# Altium integrated library Linear Technology PMIC-Switching Reg LTC1174-LTC3901.IntLib: 2647 symbols (part 47 of 310)
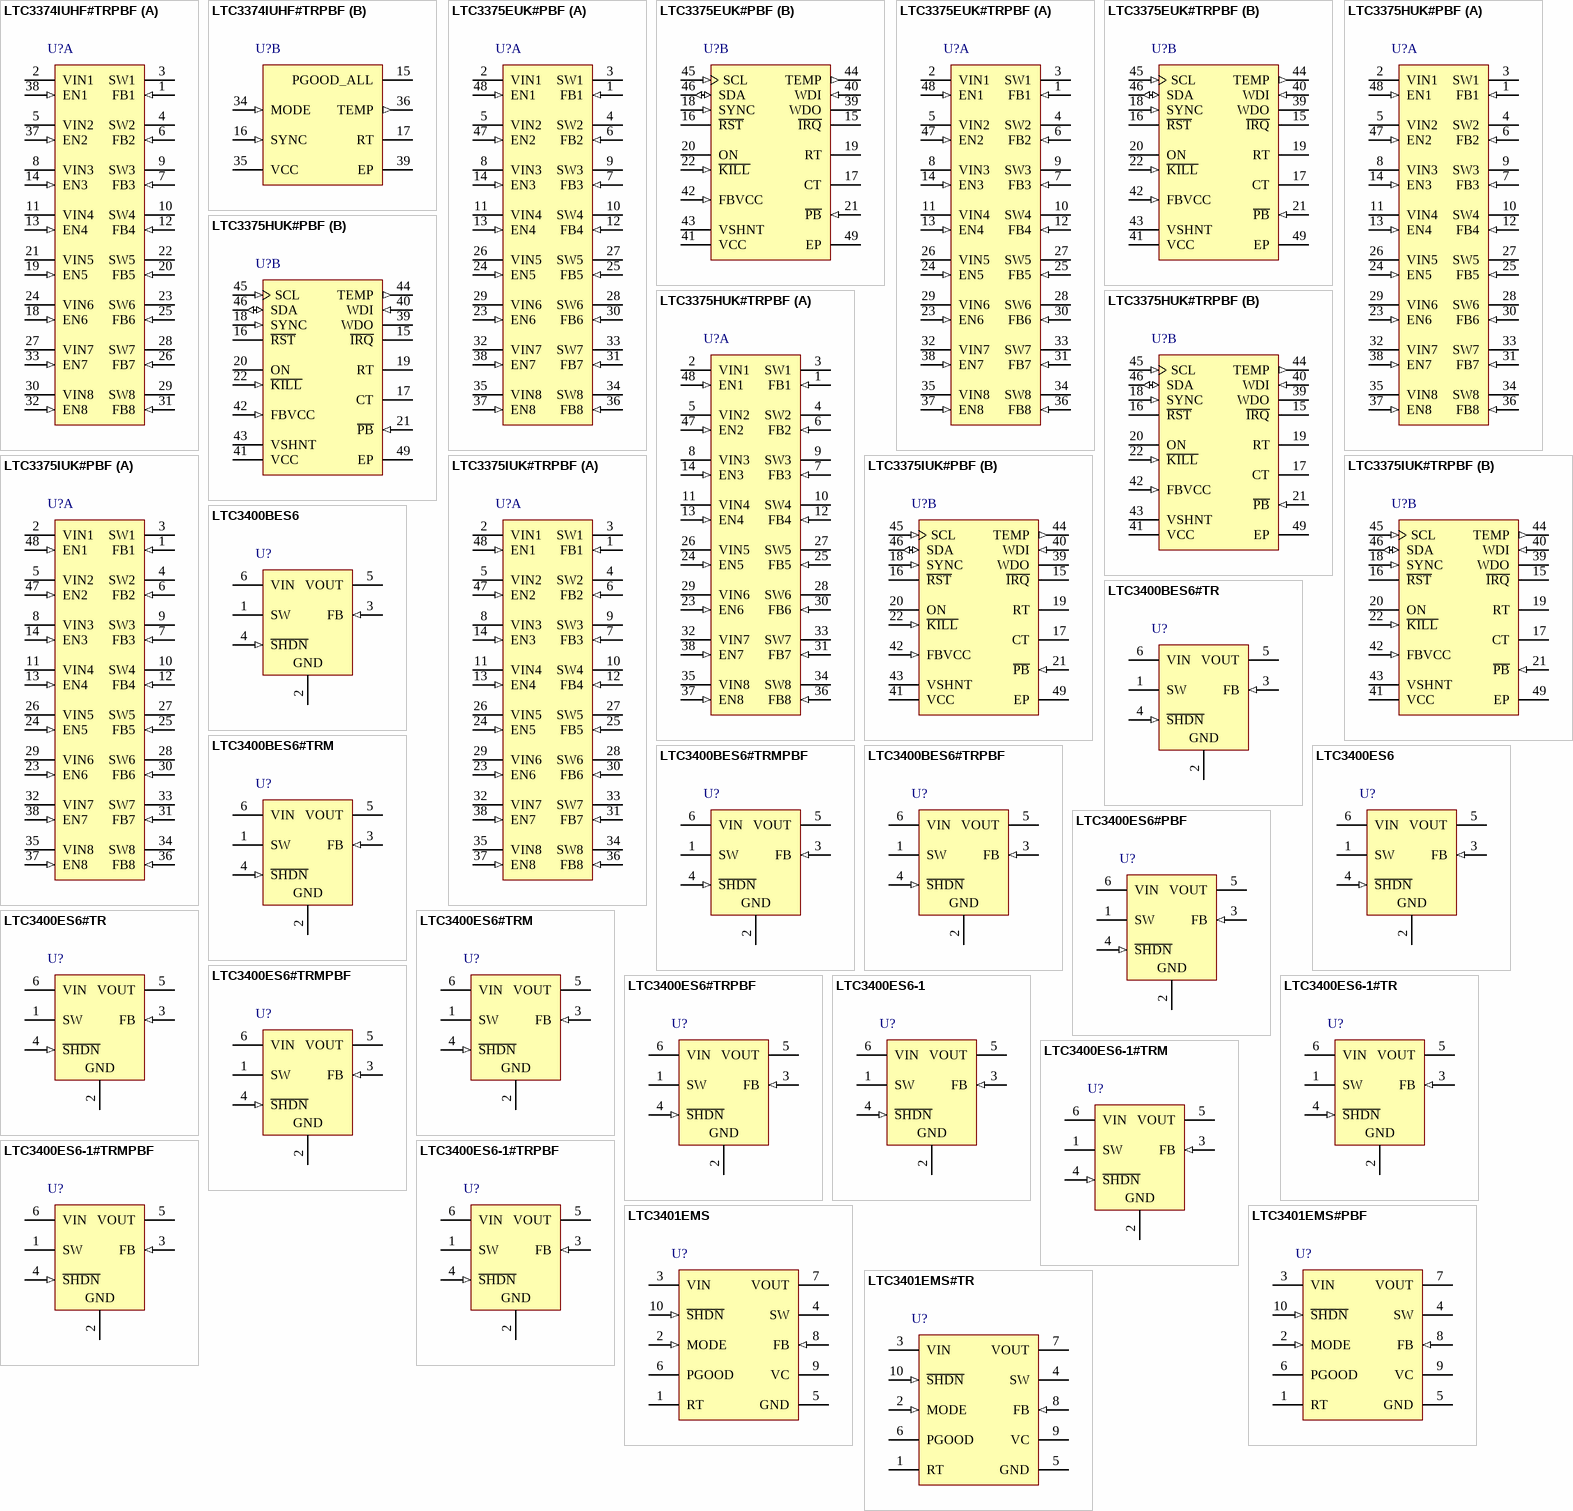
[diagram p144: symbols LTC3374IUHF#TRPBF to LTC3401EMS#TR]

## LTC3375HUK#TRPBF
designator U?
8-Channel Programmable, Parallelable 1 A Buck Regulator, 48-pin QFN (UK-48), -40 to 150 degC, Pb-Free, Tape and Reel; Manufacturer: Linear Technology; PartNumber: LTC3375HUK#TRPBF; Number of Outputs: 8; PackageReference: UK-48; PackageDescription: 48-Pin Plastic QFN, Body 7 x 7 mm, Pitch 0.5 mm; Supplier 1: Digi-Key; Supplier Part Number 1: LTC3375HUK#TRPBF-ND; RoHS: TRUE; Code_JEDEC: MO-220
footprint LT-UK-48_N (QFN, 48-Leads, Body 7.1x7.1mm, Pitch 0.5mm, Thermal Pad 5.15x5.15mm, IPC Medium Density)
footprint LT-UK-48_L (QFN, 48-Leads, Body 7.1x7.1mm, Pitch 0.5mm, Thermal Pad 5.15x5.15mm, IPC High Density)
footprint LT-UK-48_M (QFN, 48-Leads, Body 7.1x7.1mm, Pitch 0.5mm, Thermal Pad 5.15x5.15mm, IPC Low Density)
part A pins: 1 FB1 (in) "Buck Regulator 1 Feedback Pin. Receives feedback by a resistor divider connected across the output.", 2 VIN1 (power) "Buck Regulator 1 Input Supply. Bypass to GND with a 10uF or larger ceramic capacitor.", 3 SW1 (power) "Buck Regulator 1 Switch Node. External inductor connects to this pin.", 4 SW2 (power) "Buck Regulator 2 Switch Node. External inductor connects to this pin.", 5 VIN2 (power) "Buck Regulator 2 Input Supply. Bypass to GND with a 10uF or larger ceramic capacitor. May be driven by an independent supply or must be shorted to VIN1 when buck regulator 2 is combined with buck regulator 1 for higher (See Datasheet)", 6 FB2 (in) "Buck Regulator 2 Feedback Pin. Receives feedback by a resistor divider connected across the output. Connecting FB2 to VIN2 combines buck regulator 2 with buck regulator 1 for higher current. Up to 4 converters may be (See Datasheet)", 7 FB3 (in) "Buck Regulator 3 Feedback Pin. Receives feedback by a resistor divider connected across the output. Connecting FB3 to VIN3 combines buck regulator 3 with buck regulator 2 for higher current. Up to 4 converters may be (See Datasheet)", 8 VIN3 (power) "Buck Regulator 3 Input Supply. Bypass to GND with a 10uF or larger ceramic capacitor. May be driven by an independent supply or must be shorted to VIN2 when buck regulator 3 is combined with buck regulator 2 for higher (See Datasheet)", 9 SW3 (power) "Buck Regulator 3 Switch Node. External inductor connects to this pin.", 10 SW4 (power) "Buck Regulator 4 Switch Node. External inductor connects to this pin.", 11 VIN4 (power) "Buck Regulator 4 Input Supply. Bypass to GND with a 10uF or larger ceramic capacitor. May be driven by an independent supply or must be shorted to VIN3 when buck regulator 4 is combined with buck regulator 3 for higher (See Datasheet)", 12 FB4 (in) "Buck Regulator 4 Feedback Pin. Receives feedback by a resistor divider connected across the output. Connecting FB4 to VIN4 combines buck regulator 4 with buck regulator 3 for higher current. Up to 4 converters may be (See Datasheet)", 13 EN4 (in) "Buck Regulator 4 Enable Input. Active high.", 14 EN3 (in) "Buck Regulator 3 Enable Input. Active high.", 23 EN6 (in) "Buck Regulator 6 Enable Input. Active high.", 24 EN5 (in) "Buck Regulator 5 Enable Input. Active high.", 25 FB5 (in) "Buck Regulator 5 Feedback Pin. Receives feedback by a resistor divider connected across the output. Connecting FB5 to VIN5 combines buck regulator 5 with buck regulator 4 for higher current. Up to 4 converters may be (See Datasheet)", 26 VIN5 (power) "Buck Regulator 5 Input Supply. Bypass to GND with a 10uF or larger ceramic capacitor. May be driven by an independent supply or must be shorted to VIN4 when buck regulator 5 is combined with buck regulator 4 for higher (See Datasheet)", 27 SW5 (power) "Buck Regulator 5 Switch Node. External inductor connects to this pin.", 28 SW6 (power) "Buck Regulator 6 Switch Node. External inductor connects to this pin.", 29 VIN6 (power) "Buck Regulator 6 Input Supply. Bypass to GND with a 10uF or larger ceramic capacitor. May be driven by an independent supply or must be shorted to VIN5 when buck regulator 6 is combined with buck regulator 5 for higher (See Datasheet)", 30 FB6 (in) "Buck Regulator 6 Feedback Pin. Receives feedback by a resistor divider connected across the output. Connecting FB6 to VIN6 combines buck regulator 6 with buck regulator 5 for higher current. Up to 4 converters may be (See Datasheet)", 31 FB7 (in) "Buck Regulator 7 Feedback Pin. Receives feedback by a resistor divider connected across the output. Connecting FB7 to VIN7 combines buck regulator 7 with buck regulator 6 for higher current. Up to 4 converters may be (See Datasheet)", 32 VIN7 (power) "Buck Regulator 7 Input Supply. Bypass to GND with a 10uF or larger ceramic capacitor. May be driven by an independent supply or must be shorted to VIN6 when buck regulator 7 is combined with buck regulator 6 for higher (See Datasheet)", 33 SW7 (power) "Buck Regulator 7 Switch Node. External inductor connects to this pin.", 34 SW8 (power) "Buck Regulator 8 Switch Node. External inductor connects to this pin.", 35 VIN8 (power) "Buck Regulator 8 Input Supply. Bypass to GND with a 10uF or larger ceramic capacitor. May be driven by an independent supply or must be shorted to VIN7 when buck regulator 8 is combined with buck regulator 7 for higher (See Datasheet)", 36 FB8 (in) "Buck Regulator 8 Feedback Pin. Receives feedback by a resistor divider connected across the output. Connecting FB8 to VIN8 combines buck regulator 8 with buck regulator 7 for higher current. Up to 4 converters may be (See Datasheet)", 37 EN8 (in) "Buck Regulator 8 Enable Input. Active high.", 38 EN7 (in) "Buck Regulator 7 Enable Input. Active high.", 47 EN2 (in) "Buck Regulator 2 Enable Input. Active high.", 48 EN1 (in) "Buck Regulator 1 Enable Input. Active high."
part B pins: 15 ~{IRQ} (oc) "Interrupt Pin (Active Low). Open-drain output. When an undervoltage, die temperature, or unmasked error condition is detected, this pin is driven LOW.", 16 ~{RST} (oc) "Reset Pin (Active Low). Open-drain output. When the regulated output voltage of any unmasked enabled switching regulator is more than 7.5% below its programmed level, this pin is driven LOW. Assertion delay is scaled by the (See Datasheet)", 17 CT "Timing Capacitor Pin. A capacitor connected to GND sets a time constant which is scaled for use by the ON, K\I\L\L\, P\B\, R\S\T\ and I\R\Q\ pins.", 18 SYNC (in) "Oscillator Synchronization Pin. Driving SYNC with an external clock signal will synchronize all switchers to the applied frequency. The slope compensation is automatically adapted to the external clock frequency. The absence (See Datasheet)", 19 RT "Oscillator Frequency Pin. This pin provides two modes of setting the switching frequency. Connecting a resistor from RT to ground will set the switching frequency based on the resistor value. If RT is tied to VCC the default (See Datasheet)", 20 ON (oc) "Open-Drain Output. When the P\B\ pin is pressed and released, the signal is debounced and the ON signal is held HIGH for a minimum time period that is scaled by the CT capacitor. ON is forced low if: a) K\I\L\L\ is not (See Datasheet)", 21 ~{PB} (in) "Pushbutton Input. Active low. P\B\ is internally pulled to VCC through a 420k (typical) resistor.", 22 ~{KILL} (in) "Kill Input Pin. Forcing K\I\L\L\ low releases the ON output which in turn is forced low. While K\I\L\L\ is low, the buck converters will be forced to power down and will remain powered down for 1 second (scaled by the CT (See Datasheet)", 39 WDO (oc) "Watchdog Timer Output. Open-drain output. WDO is pulled low for 200ms during a watchdog timer failure.", 40 WDI (in) "Watchdog Timer Input. The WDI pin must be toggled either low to high or high to low every 1.5 seconds. Failure to toggle WDI results in the WDO pin being pulled low for 200ms.", 41 VCC (power) "Always-On LDO Output Voltage/Internal Bias Supply. When used as a regulator, VCC should be connected to the emitter/source of the external LDO NPN/ NFET transistor. VCC serves as a low voltage rail that may be used to (See Datasheet)", 42 FBVCC (in) "Always-On LDO Feedback Pin. Receives feedback by a resistor divider connected across VCC.", 43 VSHNT (power) "Shunt Regulator Base Control Voltage. VSHNT should be connected to the base/gate of an external high voltage NPN/NFET transistor and to its collector/drain through a resistor.", 44 TEMP (out) "Temperature Indication Pin. TEMP outputs a voltage of 150mV (typical) at room temperature. The TEMP voltage will change by 6.75mV/degreesC (typical) giving an external indication of the LTC3375 internal die temperature.", 45 SCL (in) "Serial Clock Line for I2C Port.", 46 SDA (io) "Serial Data Line for I2C Port. Open-drain output during read back.", 49 EP (power) "Ground. The exposed pad must be connected to a continuous ground plane on the printed circuit board directly under the LTC3375 for electrical contact and rated thermal performance."

## LTC3375IUK#PBF
designator U?
8-Channel Programmable, Parallelable 1 A Buck Regulator, 48-pin QFN (UK-48), -40 to 125 degC, Pb-Free; Manufacturer: Linear Technology; PartNumber: LTC3375IUK#PBF; Number of Outputs: 8; PackageReference: UK-48; PackageDescription: 48-Pin Plastic QFN, Body 7 x 7 mm, Pitch 0.5 mm; Supplier 1: Digi-Key; Supplier Part Number 1: LTC3375IUK#PBF-ND; RoHS: TRUE; Code_JEDEC: MO-220
footprint LT-UK-48_N (QFN, 48-Leads, Body 7.1x7.1mm, Pitch 0.5mm, Thermal Pad 5.15x5.15mm, IPC Medium Density)
footprint LT-UK-48_L (QFN, 48-Leads, Body 7.1x7.1mm, Pitch 0.5mm, Thermal Pad 5.15x5.15mm, IPC High Density)
footprint LT-UK-48_M (QFN, 48-Leads, Body 7.1x7.1mm, Pitch 0.5mm, Thermal Pad 5.15x5.15mm, IPC Low Density)
part A pins: 1 FB1 (in) "Buck Regulator 1 Feedback Pin. Receives feedback by a resistor divider connected across the output.", 2 VIN1 (power) "Buck Regulator 1 Input Supply. Bypass to GND with a 10uF or larger ceramic capacitor.", 3 SW1 (power) "Buck Regulator 1 Switch Node. External inductor connects to this pin.", 4 SW2 (power) "Buck Regulator 2 Switch Node. External inductor connects to this pin.", 5 VIN2 (power) "Buck Regulator 2 Input Supply. Bypass to GND with a 10uF or larger ceramic capacitor. May be driven by an independent supply or must be shorted to VIN1 when buck regulator 2 is combined with buck regulator 1 for higher (See Datasheet)", 6 FB2 (in) "Buck Regulator 2 Feedback Pin. Receives feedback by a resistor divider connected across the output. Connecting FB2 to VIN2 combines buck regulator 2 with buck regulator 1 for higher current. Up to 4 converters may be (See Datasheet)", 7 FB3 (in) "Buck Regulator 3 Feedback Pin. Receives feedback by a resistor divider connected across the output. Connecting FB3 to VIN3 combines buck regulator 3 with buck regulator 2 for higher current. Up to 4 converters may be (See Datasheet)", 8 VIN3 (power) "Buck Regulator 3 Input Supply. Bypass to GND with a 10uF or larger ceramic capacitor. May be driven by an independent supply or must be shorted to VIN2 when buck regulator 3 is combined with buck regulator 2 for higher (See Datasheet)", 9 SW3 (power) "Buck Regulator 3 Switch Node. External inductor connects to this pin.", 10 SW4 (power) "Buck Regulator 4 Switch Node. External inductor connects to this pin.", 11 VIN4 (power) "Buck Regulator 4 Input Supply. Bypass to GND with a 10uF or larger ceramic capacitor. May be driven by an independent supply or must be shorted to VIN3 when buck regulator 4 is combined with buck regulator 3 for higher (See Datasheet)", 12 FB4 (in) "Buck Regulator 4 Feedback Pin. Receives feedback by a resistor divider connected across the output. Connecting FB4 to VIN4 combines buck regulator 4 with buck regulator 3 for higher current. Up to 4 converters may be (See Datasheet)", 13 EN4 (in) "Buck Regulator 4 Enable Input. Active high.", 14 EN3 (in) "Buck Regulator 3 Enable Input. Active high.", 23 EN6 (in) "Buck Regulator 6 Enable Input. Active high.", 24 EN5 (in) "Buck Regulator 5 Enable Input. Active high.", 25 FB5 (in) "Buck Regulator 5 Feedback Pin. Receives feedback by a resistor divider connected across the output. Connecting FB5 to VIN5 combines buck regulator 5 with buck regulator 4 for higher current. Up to 4 converters may be (See Datasheet)", 26 VIN5 (power) "Buck Regulator 5 Input Supply. Bypass to GND with a 10uF or larger ceramic capacitor. May be driven by an independent supply or must be shorted to VIN4 when buck regulator 5 is combined with buck regulator 4 for higher (See Datasheet)", 27 SW5 (power) "Buck Regulator 5 Switch Node. External inductor connects to this pin.", 28 SW6 (power) "Buck Regulator 6 Switch Node. External inductor connects to this pin.", 29 VIN6 (power) "Buck Regulator 6 Input Supply. Bypass to GND with a 10uF or larger ceramic capacitor. May be driven by an independent supply or must be shorted to VIN5 when buck regulator 6 is combined with buck regulator 5 for higher (See Datasheet)", 30 FB6 (in) "Buck Regulator 6 Feedback Pin. Receives feedback by a resistor divider connected across the output. Connecting FB6 to VIN6 combines buck regulator 6 with buck regulator 5 for higher current. Up to 4 converters may be (See Datasheet)", 31 FB7 (in) "Buck Regulator 7 Feedback Pin. Receives feedback by a resistor divider connected across the output. Connecting FB7 to VIN7 combines buck regulator 7 with buck regulator 6 for higher current. Up to 4 converters may be (See Datasheet)", 32 VIN7 (power) "Buck Regulator 7 Input Supply. Bypass to GND with a 10uF or larger ceramic capacitor. May be driven by an independent supply or must be shorted to VIN6 when buck regulator 7 is combined with buck regulator 6 for higher (See Datasheet)", 33 SW7 (power) "Buck Regulator 7 Switch Node. External inductor connects to this pin.", 34 SW8 (power) "Buck Regulator 8 Switch Node. External inductor connects to this pin.", 35 VIN8 (power) "Buck Regulator 8 Input Supply. Bypass to GND with a 10uF or larger ceramic capacitor. May be driven by an independent supply or must be shorted to VIN7 when buck regulator 8 is combined with buck regulator 7 for higher (See Datasheet)", 36 FB8 (in) "Buck Regulator 8 Feedback Pin. Receives feedback by a resistor divider connected across the output. Connecting FB8 to VIN8 combines buck regulator 8 with buck regulator 7 for higher current. Up to 4 converters may be (See Datasheet)", 37 EN8 (in) "Buck Regulator 8 Enable Input. Active high.", 38 EN7 (in) "Buck Regulator 7 Enable Input. Active high.", 47 EN2 (in) "Buck Regulator 2 Enable Input. Active high.", 48 EN1 (in) "Buck Regulator 1 Enable Input. Active high."
part B pins: 15 ~{IRQ} (oc) "Interrupt Pin (Active Low). Open-drain output. When an undervoltage, die temperature, or unmasked error condition is detected, this pin is driven LOW.", 16 ~{RST} (oc) "Reset Pin (Active Low). Open-drain output. When the regulated output voltage of any unmasked enabled switching regulator is more than 7.5% below its programmed level, this pin is driven LOW. Assertion delay is scaled by the (See Datasheet)", 17 CT "Timing Capacitor Pin. A capacitor connected to GND sets a time constant which is scaled for use by the ON, K\I\L\L\, P\B\, R\S\T\ and I\R\Q\ pins.", 18 SYNC (in) "Oscillator Synchronization Pin. Driving SYNC with an external clock signal will synchronize all switchers to the applied frequency. The slope compensation is automatically adapted to the external clock frequency. The absence (See Datasheet)", 19 RT "Oscillator Frequency Pin. This pin provides two modes of setting the switching frequency. Connecting a resistor from RT to ground will set the switching frequency based on the resistor value. If RT is tied to VCC the default (See Datasheet)", 20 ON (oc) "Open-Drain Output. When the P\B\ pin is pressed and released, the signal is debounced and the ON signal is held HIGH for a minimum time period that is scaled by the CT capacitor. ON is forced low if: a) K\I\L\L\ is not (See Datasheet)", 21 ~{PB} (in) "Pushbutton Input. Active low. P\B\ is internally pulled to VCC through a 420k (typical) resistor.", 22 ~{KILL} (in) "Kill Input Pin. Forcing K\I\L\L\ low releases the ON output which in turn is forced low. While K\I\L\L\ is low, the buck converters will be forced to power down and will remain powered down for 1 second (scaled by the CT (See Datasheet)", 39 WDO (oc) "Watchdog Timer Output. Open-drain output. WDO is pulled low for 200ms during a watchdog timer failure.", 40 WDI (in) "Watchdog Timer Input. The WDI pin must be toggled either low to high or high to low every 1.5 seconds. Failure to toggle WDI results in the WDO pin being pulled low for 200ms.", 41 VCC (power) "Always-On LDO Output Voltage/Internal Bias Supply. When used as a regulator, VCC should be connected to the emitter/source of the external LDO NPN/ NFET transistor. VCC serves as a low voltage rail that may be used to (See Datasheet)", 42 FBVCC (in) "Always-On LDO Feedback Pin. Receives feedback by a resistor divider connected across VCC.", 43 VSHNT (power) "Shunt Regulator Base Control Voltage. VSHNT should be connected to the base/gate of an external high voltage NPN/NFET transistor and to its collector/drain through a resistor.", 44 TEMP (out) "Temperature Indication Pin. TEMP outputs a voltage of 150mV (typical) at room temperature. The TEMP voltage will change by 6.75mV/degreesC (typical) giving an external indication of the LTC3375 internal die temperature.", 45 SCL (in) "Serial Clock Line for I2C Port.", 46 SDA (io) "Serial Data Line for I2C Port. Open-drain output during read back.", 49 EP (power) "Ground. The exposed pad must be connected to a continuous ground plane on the printed circuit board directly under the LTC3375 for electrical contact and rated thermal performance."

## LTC3375IUK#TRPBF
designator U?
8-Channel Programmable, Parallelable 1 A Buck Regulator, 48-pin QFN (UK-48), -40 to 125 degC, Pb-Free, Tape and Reel; Manufacturer: Linear Technology; PartNumber: LTC3375IUK#TRPBF; Number of Outputs: 8; PackageReference: UK-48; PackageDescription: 48-Pin Plastic QFN, Body 7 x 7 mm, Pitch 0.5 mm; Supplier 1: Digi-Key; Supplier Part Number 1: LTC3375IUK#TRPBF-ND; RoHS: TRUE; Code_JEDEC: MO-220
footprint LT-UK-48_N (QFN, 48-Leads, Body 7.1x7.1mm, Pitch 0.5mm, Thermal Pad 5.15x5.15mm, IPC Medium Density)
footprint LT-UK-48_L (QFN, 48-Leads, Body 7.1x7.1mm, Pitch 0.5mm, Thermal Pad 5.15x5.15mm, IPC High Density)
footprint LT-UK-48_M (QFN, 48-Leads, Body 7.1x7.1mm, Pitch 0.5mm, Thermal Pad 5.15x5.15mm, IPC Low Density)
part A pins: 1 FB1 (in) "Buck Regulator 1 Feedback Pin. Receives feedback by a resistor divider connected across the output.", 2 VIN1 (power) "Buck Regulator 1 Input Supply. Bypass to GND with a 10uF or larger ceramic capacitor.", 3 SW1 (power) "Buck Regulator 1 Switch Node. External inductor connects to this pin.", 4 SW2 (power) "Buck Regulator 2 Switch Node. External inductor connects to this pin.", 5 VIN2 (power) "Buck Regulator 2 Input Supply. Bypass to GND with a 10uF or larger ceramic capacitor. May be driven by an independent supply or must be shorted to VIN1 when buck regulator 2 is combined with buck regulator 1 for higher (See Datasheet)", 6 FB2 (in) "Buck Regulator 2 Feedback Pin. Receives feedback by a resistor divider connected across the output. Connecting FB2 to VIN2 combines buck regulator 2 with buck regulator 1 for higher current. Up to 4 converters may be (See Datasheet)", 7 FB3 (in) "Buck Regulator 3 Feedback Pin. Receives feedback by a resistor divider connected across the output. Connecting FB3 to VIN3 combines buck regulator 3 with buck regulator 2 for higher current. Up to 4 converters may be (See Datasheet)", 8 VIN3 (power) "Buck Regulator 3 Input Supply. Bypass to GND with a 10uF or larger ceramic capacitor. May be driven by an independent supply or must be shorted to VIN2 when buck regulator 3 is combined with buck regulator 2 for higher (See Datasheet)", 9 SW3 (power) "Buck Regulator 3 Switch Node. External inductor connects to this pin.", 10 SW4 (power) "Buck Regulator 4 Switch Node. External inductor connects to this pin.", 11 VIN4 (power) "Buck Regulator 4 Input Supply. Bypass to GND with a 10uF or larger ceramic capacitor. May be driven by an independent supply or must be shorted to VIN3 when buck regulator 4 is combined with buck regulator 3 for higher (See Datasheet)", 12 FB4 (in) "Buck Regulator 4 Feedback Pin. Receives feedback by a resistor divider connected across the output. Connecting FB4 to VIN4 combines buck regulator 4 with buck regulator 3 for higher current. Up to 4 converters may be (See Datasheet)", 13 EN4 (in) "Buck Regulator 4 Enable Input. Active high.", 14 EN3 (in) "Buck Regulator 3 Enable Input. Active high.", 23 EN6 (in) "Buck Regulator 6 Enable Input. Active high.", 24 EN5 (in) "Buck Regulator 5 Enable Input. Active high.", 25 FB5 (in) "Buck Regulator 5 Feedback Pin. Receives feedback by a resistor divider connected across the output. Connecting FB5 to VIN5 combines buck regulator 5 with buck regulator 4 for higher current. Up to 4 converters may be (See Datasheet)", 26 VIN5 (power) "Buck Regulator 5 Input Supply. Bypass to GND with a 10uF or larger ceramic capacitor. May be driven by an independent supply or must be shorted to VIN4 when buck regulator 5 is combined with buck regulator 4 for higher (See Datasheet)", 27 SW5 (power) "Buck Regulator 5 Switch Node. External inductor connects to this pin.", 28 SW6 (power) "Buck Regulator 6 Switch Node. External inductor connects to this pin.", 29 VIN6 (power) "Buck Regulator 6 Input Supply. Bypass to GND with a 10uF or larger ceramic capacitor. May be driven by an independent supply or must be shorted to VIN5 when buck regulator 6 is combined with buck regulator 5 for higher (See Datasheet)", 30 FB6 (in) "Buck Regulator 6 Feedback Pin. Receives feedback by a resistor divider connected across the output. Connecting FB6 to VIN6 combines buck regulator 6 with buck regulator 5 for higher current. Up to 4 converters may be (See Datasheet)", 31 FB7 (in) "Buck Regulator 7 Feedback Pin. Receives feedback by a resistor divider connected across the output. Connecting FB7 to VIN7 combines buck regulator 7 with buck regulator 6 for higher current. Up to 4 converters may be (See Datasheet)", 32 VIN7 (power) "Buck Regulator 7 Input Supply. Bypass to GND with a 10uF or larger ceramic capacitor. May be driven by an independent supply or must be shorted to VIN6 when buck regulator 7 is combined with buck regulator 6 for higher (See Datasheet)", 33 SW7 (power) "Buck Regulator 7 Switch Node. External inductor connects to this pin.", 34 SW8 (power) "Buck Regulator 8 Switch Node. External inductor connects to this pin.", 35 VIN8 (power) "Buck Regulator 8 Input Supply. Bypass to GND with a 10uF or larger ceramic capacitor. May be driven by an independent supply or must be shorted to VIN7 when buck regulator 8 is combined with buck regulator 7 for higher (See Datasheet)", 36 FB8 (in) "Buck Regulator 8 Feedback Pin. Receives feedback by a resistor divider connected across the output. Connecting FB8 to VIN8 combines buck regulator 8 with buck regulator 7 for higher current. Up to 4 converters may be (See Datasheet)", 37 EN8 (in) "Buck Regulator 8 Enable Input. Active high.", 38 EN7 (in) "Buck Regulator 7 Enable Input. Active high.", 47 EN2 (in) "Buck Regulator 2 Enable Input. Active high.", 48 EN1 (in) "Buck Regulator 1 Enable Input. Active high."
part B pins: 15 ~{IRQ} (oc) "Interrupt Pin (Active Low). Open-drain output. When an undervoltage, die temperature, or unmasked error condition is detected, this pin is driven LOW.", 16 ~{RST} (oc) "Reset Pin (Active Low). Open-drain output. When the regulated output voltage of any unmasked enabled switching regulator is more than 7.5% below its programmed level, this pin is driven LOW. Assertion delay is scaled by the (See Datasheet)", 17 CT "Timing Capacitor Pin. A capacitor connected to GND sets a time constant which is scaled for use by the ON, K\I\L\L\, P\B\, R\S\T\ and I\R\Q\ pins.", 18 SYNC (in) "Oscillator Synchronization Pin. Driving SYNC with an external clock signal will synchronize all switchers to the applied frequency. The slope compensation is automatically adapted to the external clock frequency. The absence (See Datasheet)", 19 RT "Oscillator Frequency Pin. This pin provides two modes of setting the switching frequency. Connecting a resistor from RT to ground will set the switching frequency based on the resistor value. If RT is tied to VCC the default (See Datasheet)", 20 ON (oc) "Open-Drain Output. When the P\B\ pin is pressed and released, the signal is debounced and the ON signal is held HIGH for a minimum time period that is scaled by the CT capacitor. ON is forced low if: a) K\I\L\L\ is not (See Datasheet)", 21 ~{PB} (in) "Pushbutton Input. Active low. P\B\ is internally pulled to VCC through a 420k (typical) resistor.", 22 ~{KILL} (in) "Kill Input Pin. Forcing K\I\L\L\ low releases the ON output which in turn is forced low. While K\I\L\L\ is low, the buck converters will be forced to power down and will remain powered down for 1 second (scaled by the CT (See Datasheet)", 39 WDO (oc) "Watchdog Timer Output. Open-drain output. WDO is pulled low for 200ms during a watchdog timer failure.", 40 WDI (in) "Watchdog Timer Input. The WDI pin must be toggled either low to high or high to low every 1.5 seconds. Failure to toggle WDI results in the WDO pin being pulled low for 200ms.", 41 VCC (power) "Always-On LDO Output Voltage/Internal Bias Supply. When used as a regulator, VCC should be connected to the emitter/source of the external LDO NPN/ NFET transistor. VCC serves as a low voltage rail that may be used to (See Datasheet)", 42 FBVCC (in) "Always-On LDO Feedback Pin. Receives feedback by a resistor divider connected across VCC.", 43 VSHNT (power) "Shunt Regulator Base Control Voltage. VSHNT should be connected to the base/gate of an external high voltage NPN/NFET transistor and to its collector/drain through a resistor.", 44 TEMP (out) "Temperature Indication Pin. TEMP outputs a voltage of 150mV (typical) at room temperature. The TEMP voltage will change by 6.75mV/degreesC (typical) giving an external indication of the LTC3375 internal die temperature.", 45 SCL (in) "Serial Clock Line for I2C Port.", 46 SDA (io) "Serial Data Line for I2C Port. Open-drain output during read back.", 49 EP (power) "Ground. The exposed pad must be connected to a continuous ground plane on the printed circuit board directly under the LTC3375 for electrical contact and rated thermal performance."

## LTC3400BES6
designator U?
600 mA, 1.2 MHz Micropower Synchronous Boost Converter, 6-pin SOT23 (S6-6), -30 to 85 degC; Manufacturer: Linear Technology; PartNumber: LTC3400BES6; Number of Outputs: 1; PackageReference: S6-6; PackageDescription: 6-Pin Plastic TSOT-23, Body 2.9 x 1.63 mm, Pitch 0.95 mm; RoHS: FALSE; Code_JEDEC: MO-193
footprint LT-S6-6-TSOT-23_N (SOT23, 6-Leads, Body 2.9x1.75mm, Pitch 0.95mm, IPC Medium Density)
footprint LT-S6-6-TSOT-23_L (SOT23, 6-Leads, Body 2.9x1.75mm, Pitch 0.95mm, IPC High Density)
footprint LT-S6-6-TSOT-23_M (SOT23, 6-Leads, Body 2.9x1.75mm, Pitch 0.95mm, IPC Low Density)
pins: 1 SW, 2 GND (power), 3 FB (in), 4 ~{SHDN} (in), 5 VOUT (power), 6 VIN (power)

## LTC3400BES6#TR
designator U?
600 mA, 1.2 MHz Micropower Synchronous Boost Converter, 6-pin SOT23 (S6-6), -30 to 85 degC, Tape and Reel; Manufacturer: Linear Technology; PartNumber: LTC3400BES6#TR; Number of Outputs: 1; PackageReference: S6-6; PackageDescription: 6-Pin Plastic TSOT-23, Body 2.9 x 1.63 mm, Pitch 0.95 mm; Supplier 1: Digi-Key; Supplier Part Number 1: LTC3400BES6TR-ND; RoHS: FALSE; Code_JEDEC: MO-193
footprint LT-S6-6-TSOT-23_N (SOT23, 6-Leads, Body 2.9x1.75mm, Pitch 0.95mm, IPC Medium Density)
footprint LT-S6-6-TSOT-23_L (SOT23, 6-Leads, Body 2.9x1.75mm, Pitch 0.95mm, IPC High Density)
footprint LT-S6-6-TSOT-23_M (SOT23, 6-Leads, Body 2.9x1.75mm, Pitch 0.95mm, IPC Low Density)
pins: 1 SW, 2 GND (power), 3 FB (in), 4 ~{SHDN} (in), 5 VOUT (power), 6 VIN (power)

## LTC3400BES6#TRM
designator U?
600 mA, 1.2 MHz Micropower Synchronous Boost Converter, 6-pin SOT23 (S6-6), -30 to 85 degC, Mini Tape and Reel; Manufacturer: Linear Technology; PartNumber: LTC3400BES6#TRM; Number of Outputs: 1; PackageReference: S6-6; PackageDescription: 6-Pin Plastic TSOT-23, Body 2.9 x 1.63 mm, Pitch 0.95 mm; Supplier 1: Digi-Key; Supplier Part Number 1: LTC3400BES6#TRMTR-ND; RoHS: FALSE; Code_JEDEC: MO-193
footprint LT-S6-6-TSOT-23_N (SOT23, 6-Leads, Body 2.9x1.75mm, Pitch 0.95mm, IPC Medium Density)
footprint LT-S6-6-TSOT-23_L (SOT23, 6-Leads, Body 2.9x1.75mm, Pitch 0.95mm, IPC High Density)
footprint LT-S6-6-TSOT-23_M (SOT23, 6-Leads, Body 2.9x1.75mm, Pitch 0.95mm, IPC Low Density)
pins: 1 SW, 2 GND (power), 3 FB (in), 4 ~{SHDN} (in), 5 VOUT (power), 6 VIN (power)

## LTC3400BES6#TRMPBF
designator U?
600 mA, 1.2 MHz Micropower Synchronous Boost Converter, 6-pin SOT23 (S6-6), -30 to 85 degC, Pb-Free, Mini Tape and Reel; Manufacturer: Linear Technology; PartNumber: LTC3400BES6#TRMPBF; Number of Outputs: 1; PackageReference: S6-6; PackageDescription: 6-Pin Plastic TSOT-23, Body 2.9 x 1.63 mm, Pitch 0.95 mm; Supplier 1: Digi-Key; Supplier Part Number 1: LTC3400BES6#TRMPBFTR-ND; RoHS: TRUE; Code_JEDEC: MO-193
footprint LT-S6-6-TSOT-23_N (SOT23, 6-Leads, Body 2.9x1.75mm, Pitch 0.95mm, IPC Medium Density)
footprint LT-S6-6-TSOT-23_L (SOT23, 6-Leads, Body 2.9x1.75mm, Pitch 0.95mm, IPC High Density)
footprint LT-S6-6-TSOT-23_M (SOT23, 6-Leads, Body 2.9x1.75mm, Pitch 0.95mm, IPC Low Density)
pins: 1 SW, 2 GND (power), 3 FB (in), 4 ~{SHDN} (in), 5 VOUT (power), 6 VIN (power)

## LTC3400BES6#TRPBF
designator U?
600 mA, 1.2 MHz Micropower Synchronous Boost Converter, 6-pin SOT23 (S6-6), -30 to 85 degC, Pb-Free, Tape and Reel; Manufacturer: Linear Technology; PartNumber: LTC3400BES6#TRPBF; Number of Outputs: 1; PackageReference: S6-6; PackageDescription: 6-Pin Plastic TSOT-23, Body 2.9 x 1.63 mm, Pitch 0.95 mm; Supplier 1: Digi-Key; Supplier Part Number 1: LTC3400BES6#TRPBF-ND; RoHS: TRUE; Code_JEDEC: MO-193
footprint LT-S6-6-TSOT-23_N (SOT23, 6-Leads, Body 2.9x1.75mm, Pitch 0.95mm, IPC Medium Density)
footprint LT-S6-6-TSOT-23_L (SOT23, 6-Leads, Body 2.9x1.75mm, Pitch 0.95mm, IPC High Density)
footprint LT-S6-6-TSOT-23_M (SOT23, 6-Leads, Body 2.9x1.75mm, Pitch 0.95mm, IPC Low Density)
pins: 1 SW, 2 GND (power), 3 FB (in), 4 ~{SHDN} (in), 5 VOUT (power), 6 VIN (power)

## LTC3400ES6
designator U?
600 mA, 1.2 MHz Micropower Synchronous Boost Converter, 6-pin SOT23 (S6-6), -30 to 85 degC; Manufacturer: Linear Technology; PartNumber: LTC3400ES6; Number of Outputs: 1; PackageReference: S6-6; PackageDescription: 6-Pin Plastic TSOT-23, Body 2.9 x 1.63 mm, Pitch 0.95 mm; RoHS: FALSE; Code_JEDEC: MO-193
footprint LT-S6-6-TSOT-23_N (SOT23, 6-Leads, Body 2.9x1.75mm, Pitch 0.95mm, IPC Medium Density)
footprint LT-S6-6-TSOT-23_L (SOT23, 6-Leads, Body 2.9x1.75mm, Pitch 0.95mm, IPC High Density)
footprint LT-S6-6-TSOT-23_M (SOT23, 6-Leads, Body 2.9x1.75mm, Pitch 0.95mm, IPC Low Density)
pins: 1 SW "Switch Pin. Connect inductor between SW and VIN. Optional Schottky diode is connected between SW and VOUT. Keep these PCB trace lengths as short and wide as possible to reduce EMI and voltage overshoot. If the inductor (See Datasheet)", 2 GND (power) "Signal and Power Ground. Provide a short direct PCB path between GND and the (-) side of the output capacitor(s).", 3 FB (in) "Feedback Input to the gm Error Amplifier. Connect resistor divider tap to this pin.", 4 ~{SHDN} (in) "Logic Controlled Shutdown Input. S\H\D\N\ = High: Normal free running operation, 1.2MHz typical operating frequency. S\H\D\N\ = Low: Shutdown, quiescent current <1mA. 100W connected between SW and VIN. Typically, S\H\D\N\ (See Datasheet)", 5 VOUT (power) "Output Voltage Sense Input and Drain of the Internal Synchronous Rectifier MOSFET. Bias is derived from VOUT. PCB trace length from VOUT to the output filter capacitor(s) should be as short and wide as possible. VOUT is held (See Datasheet)", 6 VIN (power) "Battery Input Voltage. The device gets its start-up bias from VIN. Once VOUT exceeds VIN, bias comes from VOUT. Thus, once started, operation is completely independent from VIN. Operation is only limited by the output power (See Datasheet)"

## LTC3400ES6#PBF
designator U?
600 mA, 1.2 MHz Micropower Synchronous Boost Converter, 6-pin SOT23 (S6-6), -30 to 85 degC, Pb-Free; Manufacturer: Linear Technology; PartNumber: LTC3400ES6#PBF; Number of Outputs: 1; PackageReference: S6-6; PackageDescription: 6-Pin Plastic TSOT-23, Body 2.9 x 1.63 mm, Pitch 0.95 mm; Supplier 1: Farnell; Supplier Part Number 1: 2308143; RoHS: TRUE; Code_JEDEC: MO-193
footprint LT-S6-6-TSOT-23_N (SOT23, 6-Leads, Body 2.9x1.75mm, Pitch 0.95mm, IPC Medium Density)
footprint LT-S6-6-TSOT-23_L (SOT23, 6-Leads, Body 2.9x1.75mm, Pitch 0.95mm, IPC High Density)
footprint LT-S6-6-TSOT-23_M (SOT23, 6-Leads, Body 2.9x1.75mm, Pitch 0.95mm, IPC Low Density)
pins: 1 SW "Switch Pin. Connect inductor between SW and VIN. Optional Schottky diode is connected between SW and VOUT. Keep these PCB trace lengths as short and wide as possible to reduce EMI and voltage overshoot. If the inductor (See Datasheet)", 2 GND (power) "Signal and Power Ground. Provide a short direct PCB path between GND and the (-) side of the output capacitor(s).", 3 FB (in) "Feedback Input to the gm Error Amplifier. Connect resistor divider tap to this pin.", 4 ~{SHDN} (in) "Logic Controlled Shutdown Input. S\H\D\N\ = High: Normal free running operation, 1.2MHz typical operating frequency. S\H\D\N\ = Low: Shutdown, quiescent current <1mA. 100W connected between SW and VIN. Typically, S\H\D\N\ (See Datasheet)", 5 VOUT (power) "Output Voltage Sense Input and Drain of the Internal Synchronous Rectifier MOSFET. Bias is derived from VOUT. PCB trace length from VOUT to the output filter capacitor(s) should be as short and wide as possible. VOUT is held (See Datasheet)", 6 VIN (power) "Battery Input Voltage. The device gets its start-up bias from VIN. Once VOUT exceeds VIN, bias comes from VOUT. Thus, once started, operation is completely independent from VIN. Operation is only limited by the output power (See Datasheet)"

## LTC3400ES6#TR
designator U?
600 mA, 1.2 MHz Micropower Synchronous Boost Converter, 6-pin SOT23 (S6-6), -30 to 85 degC, Tape and Reel; Manufacturer: Linear Technology; PartNumber: LTC3400ES6#TR; Number of Outputs: 1; PackageReference: S6-6; PackageDescription: 6-Pin Plastic TSOT-23, Body 2.9 x 1.63 mm, Pitch 0.95 mm; Supplier 1: Digi-Key; Supplier Part Number 1: LTC3400ES6TR-ND; RoHS: FALSE; Code_JEDEC: MO-193
footprint LT-S6-6-TSOT-23_N (SOT23, 6-Leads, Body 2.9x1.75mm, Pitch 0.95mm, IPC Medium Density)
footprint LT-S6-6-TSOT-23_L (SOT23, 6-Leads, Body 2.9x1.75mm, Pitch 0.95mm, IPC High Density)
footprint LT-S6-6-TSOT-23_M (SOT23, 6-Leads, Body 2.9x1.75mm, Pitch 0.95mm, IPC Low Density)
pins: 1 SW "Switch Pin. Connect inductor between SW and VIN. Optional Schottky diode is connected between SW and VOUT. Keep these PCB trace lengths as short and wide as possible to reduce EMI and voltage overshoot. If the inductor (See Datasheet)", 2 GND (power) "Signal and Power Ground. Provide a short direct PCB path between GND and the (-) side of the output capacitor(s).", 3 FB (in) "Feedback Input to the gm Error Amplifier. Connect resistor divider tap to this pin.", 4 ~{SHDN} (in) "Logic Controlled Shutdown Input. S\H\D\N\ = High: Normal free running operation, 1.2MHz typical operating frequency. S\H\D\N\ = Low: Shutdown, quiescent current <1mA. 100W connected between SW and VIN. Typically, S\H\D\N\ (See Datasheet)", 5 VOUT (power) "Output Voltage Sense Input and Drain of the Internal Synchronous Rectifier MOSFET. Bias is derived from VOUT. PCB trace length from VOUT to the output filter capacitor(s) should be as short and wide as possible. VOUT is held (See Datasheet)", 6 VIN (power) "Battery Input Voltage. The device gets its start-up bias from VIN. Once VOUT exceeds VIN, bias comes from VOUT. Thus, once started, operation is completely independent from VIN. Operation is only limited by the output power (See Datasheet)"

## LTC3400ES6#TRM
designator U?
600 mA, 1.2 MHz Micropower Synchronous Boost Converter, 6-pin SOT23 (S6-6), -30 to 85 degC, Mini Tape and Reel; Manufacturer: Linear Technology; PartNumber: LTC3400ES6#TRM; Number of Outputs: 1; PackageReference: S6-6; PackageDescription: 6-Pin Plastic TSOT-23, Body 2.9 x 1.63 mm, Pitch 0.95 mm; Supplier 1: Digi-Key; Supplier Part Number 1: LTC3400ES6#TRMTR-ND; RoHS: FALSE; Code_JEDEC: MO-193
footprint LT-S6-6-TSOT-23_N (SOT23, 6-Leads, Body 2.9x1.75mm, Pitch 0.95mm, IPC Medium Density)
footprint LT-S6-6-TSOT-23_L (SOT23, 6-Leads, Body 2.9x1.75mm, Pitch 0.95mm, IPC High Density)
footprint LT-S6-6-TSOT-23_M (SOT23, 6-Leads, Body 2.9x1.75mm, Pitch 0.95mm, IPC Low Density)
pins: 1 SW "Switch Pin. Connect inductor between SW and VIN. Optional Schottky diode is connected between SW and VOUT. Keep these PCB trace lengths as short and wide as possible to reduce EMI and voltage overshoot. If the inductor (See Datasheet)", 2 GND (power) "Signal and Power Ground. Provide a short direct PCB path between GND and the (-) side of the output capacitor(s).", 3 FB (in) "Feedback Input to the gm Error Amplifier. Connect resistor divider tap to this pin.", 4 ~{SHDN} (in) "Logic Controlled Shutdown Input. S\H\D\N\ = High: Normal free running operation, 1.2MHz typical operating frequency. S\H\D\N\ = Low: Shutdown, quiescent current <1mA. 100W connected between SW and VIN. Typically, S\H\D\N\ (See Datasheet)", 5 VOUT (power) "Output Voltage Sense Input and Drain of the Internal Synchronous Rectifier MOSFET. Bias is derived from VOUT. PCB trace length from VOUT to the output filter capacitor(s) should be as short and wide as possible. VOUT is held (See Datasheet)", 6 VIN (power) "Battery Input Voltage. The device gets its start-up bias from VIN. Once VOUT exceeds VIN, bias comes from VOUT. Thus, once started, operation is completely independent from VIN. Operation is only limited by the output power (See Datasheet)"

## LTC3400ES6#TRMPBF
designator U?
600 mA, 1.2 MHz Micropower Synchronous Boost Converter, 6-pin SOT23 (S6-6), -30 to 85 degC, Pb-Free, Mini Tape and Reel; Manufacturer: Linear Technology; PartNumber: LTC3400ES6#TRMPBF; Number of Outputs: 1; PackageReference: S6-6; PackageDescription: 6-Pin Plastic TSOT-23, Body 2.9 x 1.63 mm, Pitch 0.95 mm; Supplier 1: Digi-Key; Supplier Part Number 1: LTC3400ES6#TRMPBFTR-ND; RoHS: TRUE; Code_JEDEC: MO-193
footprint LT-S6-6-TSOT-23_N (SOT23, 6-Leads, Body 2.9x1.75mm, Pitch 0.95mm, IPC Medium Density)
footprint LT-S6-6-TSOT-23_L (SOT23, 6-Leads, Body 2.9x1.75mm, Pitch 0.95mm, IPC High Density)
footprint LT-S6-6-TSOT-23_M (SOT23, 6-Leads, Body 2.9x1.75mm, Pitch 0.95mm, IPC Low Density)
pins: 1 SW "Switch Pin. Connect inductor between SW and VIN. Optional Schottky diode is connected between SW and VOUT. Keep these PCB trace lengths as short and wide as possible to reduce EMI and voltage overshoot. If the inductor (See Datasheet)", 2 GND (power) "Signal and Power Ground. Provide a short direct PCB path between GND and the (-) side of the output capacitor(s).", 3 FB (in) "Feedback Input to the gm Error Amplifier. Connect resistor divider tap to this pin.", 4 ~{SHDN} (in) "Logic Controlled Shutdown Input. S\H\D\N\ = High: Normal free running operation, 1.2MHz typical operating frequency. S\H\D\N\ = Low: Shutdown, quiescent current <1mA. 100W connected between SW and VIN. Typically, S\H\D\N\ (See Datasheet)", 5 VOUT (power) "Output Voltage Sense Input and Drain of the Internal Synchronous Rectifier MOSFET. Bias is derived from VOUT. PCB trace length from VOUT to the output filter capacitor(s) should be as short and wide as possible. VOUT is held (See Datasheet)", 6 VIN (power) "Battery Input Voltage. The device gets its start-up bias from VIN. Once VOUT exceeds VIN, bias comes from VOUT. Thus, once started, operation is completely independent from VIN. Operation is only limited by the output power (See Datasheet)"

## LTC3400ES6#TRPBF
designator U?
600 mA, 1.2 MHz Micropower Synchronous Boost Converter, 6-pin SOT23 (S6-6), -30 to 85 degC, Pb-Free, Tape and Reel; Manufacturer: Linear Technology; PartNumber: LTC3400ES6#TRPBF; Number of Outputs: 1; PackageReference: S6-6; PackageDescription: 6-Pin Plastic TSOT-23, Body 2.9 x 1.63 mm, Pitch 0.95 mm; Supplier 1: Digi-Key; Supplier Part Number 1: LTC3400ES6#TRPBF-ND; RoHS: TRUE; Code_JEDEC: MO-193
footprint LT-S6-6-TSOT-23_N (SOT23, 6-Leads, Body 2.9x1.75mm, Pitch 0.95mm, IPC Medium Density)
footprint LT-S6-6-TSOT-23_L (SOT23, 6-Leads, Body 2.9x1.75mm, Pitch 0.95mm, IPC High Density)
footprint LT-S6-6-TSOT-23_M (SOT23, 6-Leads, Body 2.9x1.75mm, Pitch 0.95mm, IPC Low Density)
pins: 1 SW "Switch Pin. Connect inductor between SW and VIN. Optional Schottky diode is connected between SW and VOUT. Keep these PCB trace lengths as short and wide as possible to reduce EMI and voltage overshoot. If the inductor (See Datasheet)", 2 GND (power) "Signal and Power Ground. Provide a short direct PCB path between GND and the (-) side of the output capacitor(s).", 3 FB (in) "Feedback Input to the gm Error Amplifier. Connect resistor divider tap to this pin.", 4 ~{SHDN} (in) "Logic Controlled Shutdown Input. S\H\D\N\ = High: Normal free running operation, 1.2MHz typical operating frequency. S\H\D\N\ = Low: Shutdown, quiescent current <1mA. 100W connected between SW and VIN. Typically, S\H\D\N\ (See Datasheet)", 5 VOUT (power) "Output Voltage Sense Input and Drain of the Internal Synchronous Rectifier MOSFET. Bias is derived from VOUT. PCB trace length from VOUT to the output filter capacitor(s) should be as short and wide as possible. VOUT is held (See Datasheet)", 6 VIN (power) "Battery Input Voltage. The device gets its start-up bias from VIN. Once VOUT exceeds VIN, bias comes from VOUT. Thus, once started, operation is completely independent from VIN. Operation is only limited by the output power (See Datasheet)"

## LTC3400ES6-1
designator U?
600 mA, 1.2 MHz Micropower Synchronous Boost Converter, 6-pin SOT23 (S6-6), -30 to 85 degC; Manufacturer: Linear Technology; PartNumber: LTC3400ES6-1; Number of Outputs: 1; PackageReference: S6-6; PackageDescription: 6-Pin Plastic TSOT-23, Body 2.9 x 1.63 mm, Pitch 0.95 mm; RoHS: FALSE; Code_JEDEC: MO-193
footprint LT-S6-6-TSOT-23_N (SOT23, 6-Leads, Body 2.9x1.75mm, Pitch 0.95mm, IPC Medium Density)
footprint LT-S6-6-TSOT-23_L (SOT23, 6-Leads, Body 2.9x1.75mm, Pitch 0.95mm, IPC High Density)
footprint LT-S6-6-TSOT-23_M (SOT23, 6-Leads, Body 2.9x1.75mm, Pitch 0.95mm, IPC Low Density)
pins: 1 SW, 2 GND (power), 3 FB (in), 4 ~{SHDN} (in), 5 VOUT (power), 6 VIN (power)

## LTC3400ES6-1#TR
designator U?
600 mA, 1.2 MHz Micropower Synchronous Boost Converter, 6-pin SOT23 (S6-6), -30 to 85 degC, Tape and Reel; Manufacturer: Linear Technology; PartNumber: LTC3400ES6-1#TR; Number of Outputs: 1; PackageReference: S6-6; PackageDescription: 6-Pin Plastic TSOT-23, Body 2.9 x 1.63 mm, Pitch 0.95 mm; Supplier 1: Digi-Key; Supplier Part Number 1: LTC3400ES6-1#TR-ND; RoHS: FALSE; Code_JEDEC: MO-193
footprint LT-S6-6-TSOT-23_N (SOT23, 6-Leads, Body 2.9x1.75mm, Pitch 0.95mm, IPC Medium Density)
footprint LT-S6-6-TSOT-23_L (SOT23, 6-Leads, Body 2.9x1.75mm, Pitch 0.95mm, IPC High Density)
footprint LT-S6-6-TSOT-23_M (SOT23, 6-Leads, Body 2.9x1.75mm, Pitch 0.95mm, IPC Low Density)
pins: 1 SW, 2 GND (power), 3 FB (in), 4 ~{SHDN} (in), 5 VOUT (power), 6 VIN (power)

## LTC3400ES6-1#TRM
designator U?
600 mA, 1.2 MHz Micropower Synchronous Boost Converter, 6-pin SOT23 (S6-6), -30 to 85 degC, Mini Tape and Reel; Manufacturer: Linear Technology; PartNumber: LTC3400ES6-1#TRM; Number of Outputs: 1; PackageReference: S6-6; PackageDescription: 6-Pin Plastic TSOT-23, Body 2.9 x 1.63 mm, Pitch 0.95 mm; Supplier 1: Digi-Key; Supplier Part Number 1: LTC3400ES6-1#TRM-ND; RoHS: FALSE; Code_JEDEC: MO-193
footprint LT-S6-6-TSOT-23_N (SOT23, 6-Leads, Body 2.9x1.75mm, Pitch 0.95mm, IPC Medium Density)
footprint LT-S6-6-TSOT-23_L (SOT23, 6-Leads, Body 2.9x1.75mm, Pitch 0.95mm, IPC High Density)
footprint LT-S6-6-TSOT-23_M (SOT23, 6-Leads, Body 2.9x1.75mm, Pitch 0.95mm, IPC Low Density)
pins: 1 SW, 2 GND (power), 3 FB (in), 4 ~{SHDN} (in), 5 VOUT (power), 6 VIN (power)

## LTC3400ES6-1#TRMPBF
designator U?
600 mA, 1.2 MHz Micropower Synchronous Boost Converter, 6-pin SOT23 (S6-6), -30 to 85 degC, Pb-Free, Mini Tape and Reel; Manufacturer: Linear Technology; PartNumber: LTC3400ES6-1#TRMPBF; Number of Outputs: 1; PackageReference: S6-6; PackageDescription: 6-Pin Plastic TSOT-23, Body 2.9 x 1.63 mm, Pitch 0.95 mm; Supplier 1: Digi-Key; Supplier Part Number 1: LTC3400ES6-1#TRMPBF-ND; RoHS: TRUE; Code_JEDEC: MO-193
footprint LT-S6-6-TSOT-23_N (SOT23, 6-Leads, Body 2.9x1.75mm, Pitch 0.95mm, IPC Medium Density)
footprint LT-S6-6-TSOT-23_L (SOT23, 6-Leads, Body 2.9x1.75mm, Pitch 0.95mm, IPC High Density)
footprint LT-S6-6-TSOT-23_M (SOT23, 6-Leads, Body 2.9x1.75mm, Pitch 0.95mm, IPC Low Density)
pins: 1 SW, 2 GND (power), 3 FB (in), 4 ~{SHDN} (in), 5 VOUT (power), 6 VIN (power)

## LTC3400ES6-1#TRPBF
designator U?
600 mA, 1.2 MHz Micropower Synchronous Boost Converter, 6-pin SOT23 (S6-6), -30 to 85 degC, Pb-Free, Tape and Reel; Manufacturer: Linear Technology; PartNumber: LTC3400ES6-1#TRPBF; Number of Outputs: 1; PackageReference: S6-6; PackageDescription: 6-Pin Plastic TSOT-23, Body 2.9 x 1.63 mm, Pitch 0.95 mm; Supplier 1: Digi-Key; Supplier Part Number 1: LTC3400ES6-1#TRPBF-ND; RoHS: TRUE; Code_JEDEC: MO-193
footprint LT-S6-6-TSOT-23_N (SOT23, 6-Leads, Body 2.9x1.75mm, Pitch 0.95mm, IPC Medium Density)
footprint LT-S6-6-TSOT-23_L (SOT23, 6-Leads, Body 2.9x1.75mm, Pitch 0.95mm, IPC High Density)
footprint LT-S6-6-TSOT-23_M (SOT23, 6-Leads, Body 2.9x1.75mm, Pitch 0.95mm, IPC Low Density)
pins: 1 SW, 2 GND (power), 3 FB (in), 4 ~{SHDN} (in), 5 VOUT (power), 6 VIN (power)

## LTC3401EMS
designator U?
1 A, 3 MHz Micropower Synchronous Boost Converter, 10-pin SOP (MS-10), -40 to 85 degC; Manufacturer: Linear Technology; PartNumber: LTC3401EMS; Number of Outputs: 1; PackageReference: MS-10; PackageDescription: 10-Pin Plastic MSOP, Body 3 x 3 mm, Pitch 0.5 mm; Supplier 1: Digi-Key; Supplier Part Number 1: LTC3401EMS-ND; RoHS: FALSE
footprint LT-MS-10_N (SOP, 10-Leads, Body 3.1x3.1mm, Pitch 0.5mm, IPC Medium Density)
footprint LT-MS-10_L (SOP, 10-Leads, Body 3.1x3.1mm, Pitch 0.5mm, IPC High Density)
footprint LT-MS-10_M (SOP, 10-Leads, Body 3.1x3.1mm, Pitch 0.5mm, IPC Low Density)
pins: 1 RT "Timing Resistor to Program the Oscillator Frequency.", 2 MODE (in) "Burst Mode Select and Oscillator Synchronization. MODE/SYNC = High. Enable Burst Mode operation. The inductor peak inductor current will be 1/3 the current limit value and return to zero current on each cycle. During Burst (See Datasheet)", 3 VIN (power) "Input Supply Pin", 4 SW "Switch Pin. Connect inductor and Schottky diode here. For applications with output voltages over 4.3V, a Schottky diode is required to ensure that the SW pin voltage does not exceed its absolute maximum rating. Minimize (See Datasheet)", 5 GND (power) "Signal and Power Ground for the IC.", 6 PGOOD (oc) "Power Good Comparator Output. This open-drain output is low when VFB < -9% from its regulation voltage.", 7 VOUT (power) "Output of the Synchronous Rectifier and Bootstrapped Power Source for the IC. A ceramic capacitor of at least 1uF is required and should be located as close to the VOUT and GND pins as possible (Pins 7 and 5).", 8 FB (in) "Feedback Pin. Connect resistor divider tap here. The output voltage can be adjusted from 2.6V to 5V. The feedback reference voltage is typically 1.25V.", 9 VC "Error Amp Output. A frequency compensation network is connected to this pin to compensate the loop. See the section “Compensating the Feedback Loop” for guidelines.", 10 ~{SHDN} (in) "Shutdown. Grounding this pin shuts down the IC. Tie to >1V to enable (VIN or digital gate output). To operate with input voltages below 1V once the converter has started, a 1M resistor from S\H\D\N\ to VIN and a 5M resistor (See Datasheet)"